# Altium footprint library Chips.PcbLib: 116 footprints (part 4 of 8)
Each footprint in its own frame and in the unit in brackets; x right, y up, seen from the top. Pads: shape width x height; smd on the part's side, far side on the other; paste and mask are expansions set on the pad; w line width, h text height; cw(c..) or ccw(c..) is an arc to the next point about the centre after c.
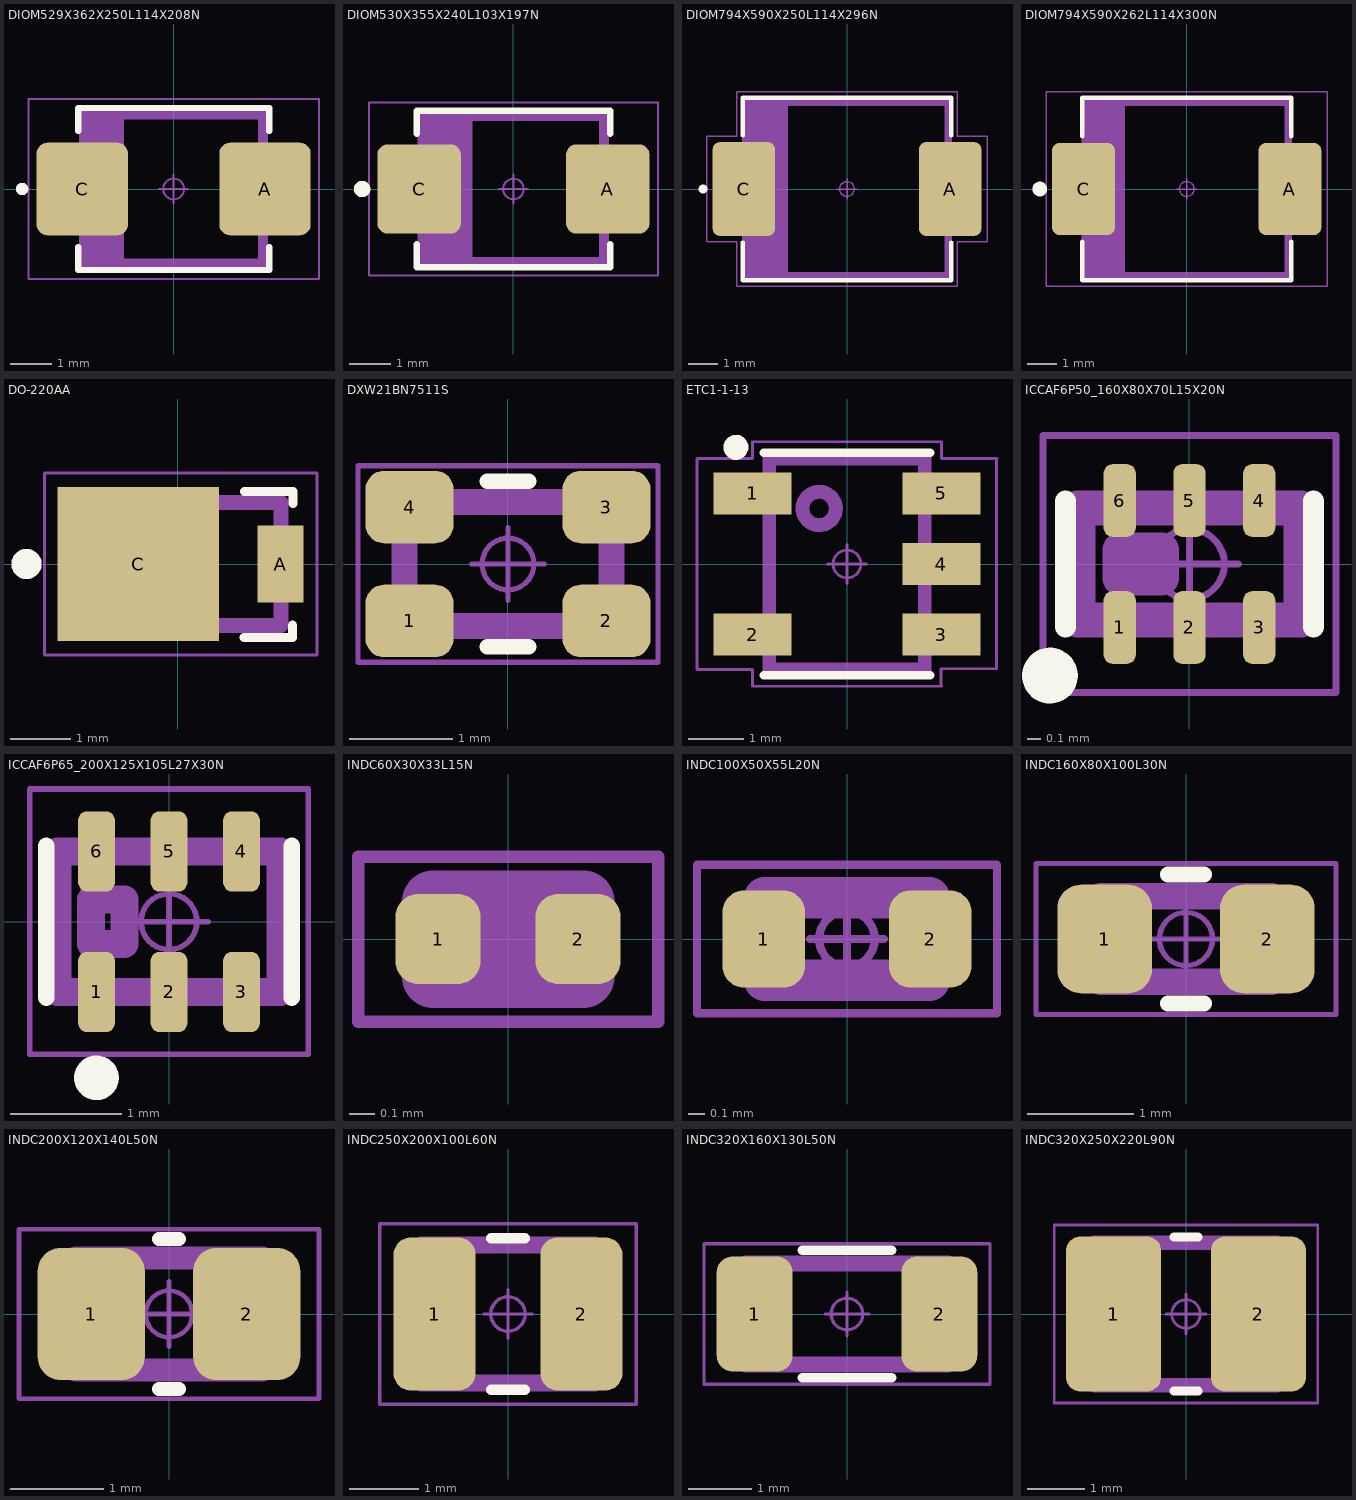
[diagram p3: the footprints below, top view; thin cyan lines are the x and y axes]

## DIOM529X362X250L114X208N [mm] "Diode, Molded Body; 4.315 mm L X 3.62 mm W X 2.50 mm H body"
height 2.5
pads (2):
  rrect23% 2.2x2.23 smd: A(2.2,0) C(-2.2,0)
Top Overlay:
  circle w0.15: c-3.65,0 r0.075
  lines w0.15: -2.3,-1.4 -2.3,-1.95 2.3,-1.95 2.3,-1.4 ; -2.3,1.4 -2.3,1.95 2.3,1.95 2.3,1.4
Top Assembly:
  rectangle: -2.1,-1.8 -1.2,1.8
  lines w0.25: -2.15,-1.8 -2.15,1.8 2.15,1.8 2.15,-1.8 -2.15,-1.8
  text ".Designator" at -3.378,-0.339 h1.5
Top Courtyard:
  circle w0.05: c0,0 r0.25
  lines w0.05: -0.35,0 0.35,0 ; 0,-0.35 0,0.35 ; -3.5,-2.17 -3.5,2.17 3.5,2.17 3.5,-2.17 -3.5,-2.17
3D body "DIOM529X362X250L114X208.STEP": height 2.5, standoff 0, extent -2.648,-1.81 2.648,1.81

## DIOM530X355X240L103X197N [mm] "Diode, Molded Body; 5.30 mm L X 3.55 mm W X 2.40 mm H body"
height 2.4
pads (2):
  rrect25% 2.03x2.17 smd: A(2.29,0) C(-2.29,0)
Top Overlay:
  circle w0.2: c-3.675,0 r0.1
  lines w0.15: -2.35,-1.34 -2.35,-1.9 2.35,-1.9 2.35,-1.34 ; -2.35,1.34 -2.35,1.9 2.35,1.9 2.35,1.34
Top Assembly:
  rectangle: -2.2,-1.78 -0.997,1.78
  lines w0.25: -2.2,-1.78 2.2,-1.78 2.2,1.78 -2.2,1.78 -2.2,-1.78
  text ".Designator" at -0.8,-0.4 h1.5
Top Courtyard:
  circle w0.05: c0,0 r0.25
  lines w0.05: -0.35,0 0.35,0 ; 0,-0.35 0,0.35 ; -3.51,-2.1 3.51,-2.1 3.51,2.1 -3.51,2.1 -3.51,-2.1
3D body "DIOM530X355X240L103X197.STEP": height 2.4, standoff 0, extent -2.65,-1.775 2.65,1.775

## DIOM794X590X250L114X296N [mm] "Diode, Molded Body; 6.855 mm L X 5.905 mm W X 2.50 mm H body"
height 2.5
pads (2):
  rrect23% 2.13x3.19 smd: A(3.51,0) C(-3.51,0)
Top Overlay:
  circle w0.15: c-4.9,0 r0.075
  lines w0.15: -3.55,-1.82 -3.55,-3.1 3.55,-3.1 3.55,-1.82 ; -3.55,1.82 -3.55,3.1 3.55,3.1 3.55,1.82
Top Assembly:
  rectangle: -3.45,-3 -2,2.95
  lines w0.25: -3.45,-2.95 -3.45,2.95 3.45,2.95 3.45,-2.95 -3.45,-2.95
  text ".Designator" at -2.85,-0.55 h2
Top Courtyard:
  circle w0.05: c0,0 r0.25
  lines w0.05: -0.35,0 0.35,0 ; 0,-0.35 0,0.35 ; -4.775,-1.795 -4.775,1.795 -3.76,1.795 -3.76,3.31 3.76,3.31 3.76,1.795 4.775,1.795 4.775,-1.795 3.76,-1.795 3.76,-3.31 -3.76,-3.31 -3.76,-1.795 -4.775,-1.795
3D body "DIOM794X590X250L114X296.STEP": height 2.5, standoff 0, extent -3.97,-2.953 3.97,2.953

## DIOM794X590X262L114X300N [mm] "Diode, Molded Body; 6.855 mm L X 5.905 mm W X 2.62 mm H body"
height 2.62
pads (2):
  rrect23% 2.13x3.13 smd: A(3.51,0) C(-3.51,0)
Top Overlay:
  circle w0.25: c-5,0 r0.125
  lines w0.15: -3.55,-1.79 -3.55,-3.1 3.55,-3.1 3.55,-1.79 ; -3.55,1.79 -3.55,3.1 3.55,3.1 3.55,1.79
Top Assembly:
  rectangle: -3.45,-2.95 -2.1,2.95
  lines w0.25: -3.45,-2.95 -3.45,2.95 3.45,2.95 3.45,-2.95 -3.45,-2.95
  text ".Designator" at -1.6,-0.3 h1.5
Top Courtyard:
  circle w0.05: c0,0 r0.25
  lines w0.05: -0.35,0 0.35,0 ; 0,-0.35 0,0.35 ; -4.78,-3.31 -4.78,3.31 4.78,3.31 4.78,-3.31 -4.78,-3.31
3D body "DIOM794X590X262L114X300.STEP": height 2.62, standoff 0, extent -3.97,-2.953 3.97,2.953

## DO-220AA [mm] "Vishay DO-220AA"
height 1
pads (2):
  rect 0.762x1.27 smd paste+0: A(1.695,0)
  rect 2.67x2.54 smd paste+0: C(-0.656,0)
Top Overlay:
  circle w0.25: c-2.5,0 r0.125
  lines w0.15: 1.089,-1.211 1.889,-1.211 1.889,-1.011 ; 1.1,1.2 1.9,1.2 1.9,1
Top Assembly:
  rectangle: -1.7,-1.015 -1.042,1.015
  lines w0.25: -1.7,-1.015 -1.7,1.015 1.7,1.015 1.7,-1.015 -1.7,-1.015
  text ".Designator" at -0.856,-0.431 h1.5
Top Courtyard:
  circle w0.05: c0,0 r0.25
  lines w0.05: -0.35,0 0.35,0 ; 0,-0.35 0,0.35 ; -2.2,-1.5 -2.2,1.5 2.2,1.5 2.3,1.5 2.3,-1.5 2.2,-1.5 -2.2,-1.5
3D body "SMP Do-220AA.STEP": height 0.98, standoff 0, extent -1.85,-1.015 2,1.015

## DXW21BN7511S [mm] "Murata 2012 4-terminal"
height 1.3
pads (4):
  rrect50% 0.85x0.7 smd: 1(-0.95,-0.55) 2(0.95,-0.55) 3(0.95,0.55) 4(-0.95,0.55)
Top Overlay:
  lines w0.15: -0.2,-0.8 0.2,-0.8 ; -0.2,0.8 0.2,0.8
Top Assembly:
  lines w0.25: -1,-0.6 1,-0.6 1,0.6 -1,0.6 -1,-0.6
Top Courtyard:
  circle w0.05: c0,0 r0.25
  lines w0.05: -0.35,0 0.35,0 ; 0,-0.35 0,0.35 ; -1.448,-0.948 1.448,-0.948 1.448,0.948 -1.448,0.948 -1.448,-0.948
3D body "DXW21BN7511S.STEP": height 1.2, standoff 0, extent -1,-0.6 1,0.6

## ETC1-1-13 [mm] "MACOM ETC1-1-13"
height 2.75
pads (5):
  rect 1.4x0.76 smd: 1(-1.7,1.27) 2(-1.7,-1.27) 3(1.7,-1.27) 4(1.7,0) 5(1.7,1.27)
Top Overlay:
  circle w0.25: c-2,2.1 r0.1
  lines w0.15: -1.5,-2 1.5,-2 ; -1.5,2 1.5,2
Top Assembly:
  circle w0.25: c-0.5,1 r0.3
  lines w0.25: -1.4,-1.9 1.4,-1.9 1.4,1.9 -1.4,1.9 -1.4,-1.9
  text ".Designator" at 0.7,-1.6 h1.5
Top Courtyard:
  circle w0.05: c0,0 r0.25
  lines w0.05: -0.35,0 0.35,0 ; 0,-0.35 0,0.35 ; 1.691,-2.186 1.691,-1.886 2.691,-1.886 2.691,1.9 2.7,1.9 1.7,1.9 1.7,2.2 -1.7,2.2 -1.7,1.9 -2.7,1.9 -2.7,-1.9 -1.7,-1.9 -1.7,-2.2 1.7,-2.2
3D body "ETC1-1-13.STEP": height 2.75, standoff 0, extent -1.97,-1.915 1.97,1.915

## ICCAF6P50_160X80X70L15X20N [mm] "Chip Array, 2 Side Flat, 0.50 mm pitch; 6 pin, 1.60 mm L X 0.80 mm W X 0.70 mm H body"
height 0.7
pads (6):
  rrect52% 0.23x0.52 smd: 1(-0.5,-0.455) 2(0,-0.455) 3(0.5,-0.455) 4(0.5,0.455) 5(0,0.455) 6(-0.5,0.455)
Top Overlay:
  circle w0.2: c-1,-0.8 r0.1
  lines w0.15: -0.89,-0.45 -0.89,0.45 ; 0.89,-0.45 0.89,0.45
Top Assembly:
  lines w0.25: -0.8,-0.4 -0.8,0.4 0.8,0.4 0.8,-0.4 -0.8,-0.4 ; -0.5,-0.1 -0.2,-0.1 -0.2,0.1 -0.5,0.1 -0.5,-0.1
  text ".Designator" at -1.8,0.8 h1.5
Top Courtyard:
  circle w0.05: c0,0 r0.25
  lines w0.05: -0.35,0 0.35,0 ; 0,-0.35 0,0.35 ; -1.05,-0.92 -1.05,0.92 1.05,0.92 1.05,-0.92 -1.05,-0.92
3D body "ICCAF6P50_160X80X70L15X20.STEP": height 0.7, standoff 0, extent -0.8,-0.45 0.8,0.45

## ICCAF6P65_200X125X105L27X30N [mm] "Chip Array, 2 Side Flat, 0.65 mm pitch; 6 pin, 2.00 mm L X 1.25 mm W X 1.05 mm H body"
height 1.05
pads (6):
  rrect48% 0.33x0.72 smd: 1(-0.65,-0.63) 2(0,-0.63) 3(0.65,-0.63) 4(0.65,0.63) 5(0,0.63) 6(-0.65,0.63)
Top Overlay:
  circle w0.2: c-0.65,-1.4 r0.1
  lines w0.15: -1.1,-0.68 -1.1,0.68 ; 1.1,-0.68 1.1,0.68
Top Assembly:
  lines w0.25: -1,-0.63 1,-0.63 1,0.63 -1,0.63 -1,-0.63 ; -0.7,-0.2 -0.7,0.2 -0.4,0.2 -0.4,-0.2 -0.7,-0.2
  text ".Designator" at -2,1.1 h1.5
Top Courtyard:
  circle w0.05: c0,0 r0.25
  lines w0.05: -0.35,0 0.35,0 ; 0,-0.35 0,0.35 ; -1.25,-1.19 1.25,-1.19 1.25,1.19 -1.25,1.19 -1.25,-1.19
3D body "ICCAF6P65_200X125X105L27X30.STEP": height 1.05, standoff 0, extent -1,-0.675 1,0.675

## INDC60X30X33L15N [mm] "Inductor, Chip; 0.60 mm L X 0.30 mm W X 0.33 mm H body"
height 0.33
pads (2):
  rrect53% 0.34x0.36 smd: 1(-0.28,0) 2(0.28,0)
Top Assembly:
  lines w0.25: -0.3,-0.15 0.3,-0.15 0.3,0.15 -0.3,0.15 -0.3,-0.15
  text ".Designator" at 0,0 h1.5
Top Courtyard:
  circle w0.05: c0,0 r0.124
  lines w0.05: -0.165,0 0.165,0 ; 0,-0.165 0,0.165 ; -0.6,-0.33 0.6,-0.33 0.6,0.33 -0.6,0.33 -0.6,-0.33
3D body "INDC60X30X33L15.STEP": height 0.33, standoff 0, extent -0.3,-0.15 0.3,0.15

## INDC100X50X55L20N [mm] "Inductor, Chip; 1.00 mm L X 0.50 mm W X 0.55 mm H body"
height 0.55
pads (2):
  rrect52% 0.5x0.59 smd: 1(-0.505,0) 2(0.505,0)
Top Assembly:
  lines w0.25: -0.5,-0.25 -0.5,0.25 0.5,0.25 0.5,-0.25 -0.5,-0.25
  text ".Designator" at -1.3,0.6 h1.5
Top Courtyard:
  circle w0.05: c0,0 r0.169
  lines w0.05: -0.225,0 0.225,0 ; 0,-0.225 0,0.225 ; -0.91,-0.45 -0.91,0.45 0.91,0.45 0.91,-0.45 -0.91,-0.45
3D body "INDC100X50X55L20.STEP": height 0.55, standoff 0, extent -0.5,-0.25 0.5,0.25

## INDC160X80X100L30N [mm] "Inductor, Chip; 1.60 mm L X 0.80 mm W X 1.00 mm H body"
height 1
pads (2):
  rrect49% 0.89x1.02 smd: 1(-0.765,0) 2(0.765,0)
Top Overlay:
  lines w0.15: -0.17,-0.605 0.17,-0.605 ; -0.17,0.605 0.17,0.605
Top Assembly:
  lines w0.25: -0.8,-0.4 -0.8,0.4 0.8,0.4 0.8,-0.4 -0.8,-0.4
  text ".Designator" at -1.6,0.9 h1.5
Top Courtyard:
  circle w0.05: c0,0 r0.25
  lines w0.05: -0.35,0 0.35,0 ; 0,-0.35 0,0.35 ; -1.41,-0.71 -1.41,0.71 1.41,0.71 1.41,-0.71 -1.41,-0.71
3D body "INDC160X80X100L30.STEP": height 1, standoff 0, extent -0.8,-0.4 0.8,0.4

## INDC200X120X140L50N [mm] "Inductor, Chip; 2.00 mm L X 1.20 mm W X 1.40 mm H body"
height 1.4
pads (2):
  rrect43% 1.15x1.42 smd: 1(-0.835,0) 2(0.835,0)
Top Overlay:
  lines w0.15: -0.11,-0.805 0.11,-0.805 ; -0.11,0.805 0.11,0.805
Top Assembly:
  lines w0.25: -1,-0.6 -1,0.6 1,0.6 1,-0.6 -1,-0.6
  text ".Designator" at -1.8,1.1 h1.5
Top Courtyard:
  circle w0.05: c0,0 r0.25
  lines w0.05: -0.35,0 0.35,0 ; 0,-0.35 0,0.35 ; -1.61,-0.91 -1.61,0.91 1.61,0.91 1.61,-0.91 -1.61,-0.91
3D body "INDC200X120X140L50.STEP": height 1.4, standoff 0, extent -1,-0.6 1,0.6

## INDC250X200X100L60N [mm] "Inductor, Chip; 2.50 mm L X 2.00 mm W X 1.00 mm H body"
height 1
pads (2):
  rrect42% 1.19x2.22 smd: 1(-1.065,0) 2(1.065,0)
Top Overlay:
  lines w0.15: -0.245,-1.1 0.245,-1.1 ; -0.245,1.1 0.245,1.1
Top Assembly:
  lines w0.25: -1.25,-1 -1.25,1 1.25,1 1.25,-1 -1.25,-1
  text ".Designator" at 0,0 h1.5
Top Courtyard:
  circle w0.05: c0,0 r0.25
  lines w0.05: -0.35,0 0.35,0 ; 0,-0.35 0,0.35 ; -1.86,-1.31 -1.86,1.31 1.86,1.31 1.86,-1.31 -1.86,-1.31
3D body "INDC250X200X100L60.STEP": height 1, standoff 0, extent -1.25,-1 1.25,1

## INDC320X160X130L50N [mm] "Inductor, Chip; 3.20 mm L X 1.60 mm W X 1.30 mm H body"
height 1.3
pads (2):
  rrect42% 1.2x1.82 smd: 1(-1.46,0) 2(1.46,0)
Top Overlay:
  lines w0.15: -0.71,-1.005 0.71,-1.005 ; -0.71,1.005 0.71,1.005
Top Assembly:
  lines w0.25: -1.6,-0.8 -1.6,0.8 1.6,0.8 1.6,-0.8 -1.6,-0.8
  text ".Designator" at -1.2,-0.4 h1.5
Top Courtyard:
  circle w0.05: c0,0 r0.25
  lines w0.05: -0.35,0 0.35,0 ; 0,-0.35 0,0.35 ; -2.26,-1.11 -2.26,1.11 2.26,1.11 2.26,-1.11 -2.26,-1.11
3D body "INDC320X160X130L50.STEP": height 1.3, standoff 0, extent -1.6,-0.8 1.6,0.8

## INDC320X250X220L90N [mm] "Inductor, Chip; 3.20 mm L X 2.50 mm W X 2.20 mm H body"
height 2.2
pads (2):
  rrect30% 1.67x2.72 smd: 1(-1.27,0) 2(1.27,0)
Top Overlay:
  lines w0.15: -0.21,-1.35 0.21,-1.35 ; -0.21,1.35 0.21,1.35
Top Assembly:
  lines w0.25: -1.6,-1.25 -1.6,1.25 1.6,1.25 1.6,-1.25 -1.6,-1.25
  text ".Designator" at 0,0 h1.5
Top Courtyard:
  circle w0.05: c0,0 r0.25
  lines w0.05: -0.35,0 0.35,0 ; 0,-0.35 0,0.35 ; -2.31,-1.56 -2.31,1.56 2.31,1.56 2.31,-1.56 -2.31,-1.56
3D body "INDC320X250X220L90.STEP": height 2.2, standoff 0, extent -1.6,-1.25 1.6,1.25